# Altium schematic symbol library KQ-130F.SchLib: 1 symbol
Pins are listed as number, name and electrical type; pins without a type are passive.

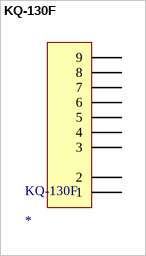
[diagram p0: symbol KQ-130F]

## KQ-130F
designator KQ-130F
footprint KQ-130F
pins: 1, 2, 3, 4, 5, 6, 7, 8, 9